# Altium schematic symbol library LM358FV-GE2.SchLib: 1 symbol
Pins are listed as number, name and electrical type; pins without a type are passive.

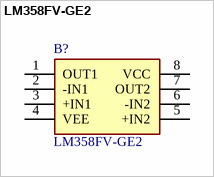
[diagram p0: symbol LM358FV-GE2]

## LM358FV-GE2
designator B?
Operational Amplifiers - Op Amps LM358FV is a dual ground sense operational amplifier. These have features of low current consumption and wide operating voltage range from 3V to 32V (single power supply).; Manufacturer_Name: ROHM Semiconductor; Geometry.Height: 1.35mm; Mouser Part Number: 755-LM358FV-GE2; Mouser Price/Stock: https://www.mouser.co.uk/ProductDetail/ROHM-Semiconductor/LM358FV-GE2?qs=HXFqYaX1Q2xR2xgE3bpCFQ%3D%3D; Manufacturer_Part_Number: LM358FV-GE2; Datasheet Link: https://fscdn.rohm.com/en/products/databook/datasheet/ic/amp_linear/opamp/lm358f-e.pdf
footprint SOP65P640X135-8N
pins: 1 OUT1, 2 -IN1, 3 +IN1, 4 VEE, 5 +IN2, 6 -IN2, 7 OUT2, 8 VCC